# Altium footprint library W25Qxx.PcbLib: 1 footprints
Each footprint in its own frame and in the unit in brackets; x right, y up, seen from the top. Pads: shape width x height; smd on the part's side, far side on the other; paste and mask are expansions set on the pad; w line width, h text height; cw(c..) or ccw(c..) is an arc to the next point about the centre after c.
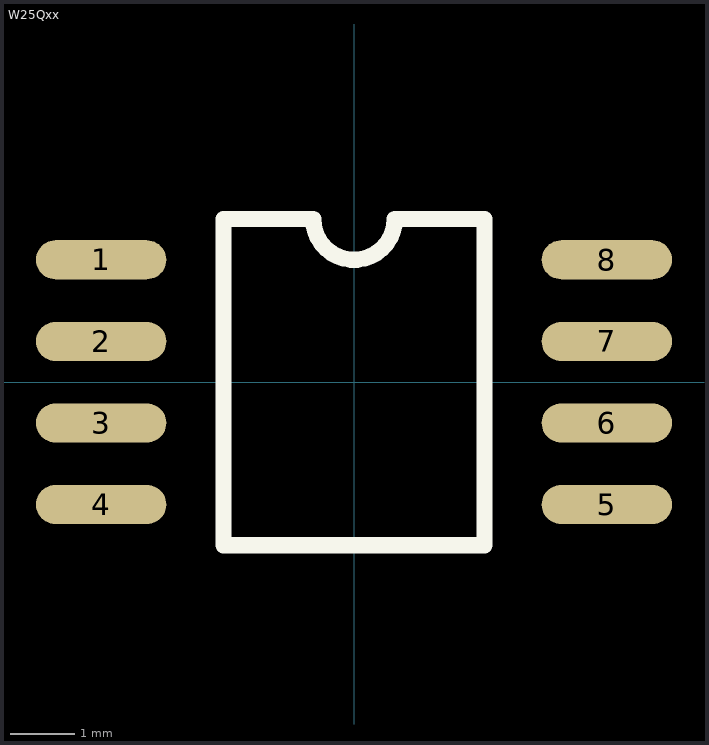
[diagram p0: the footprint, top view; thin cyan lines are the x and y axes]

## W25Qxx [mil]
pads (8):
  oval 80x24 smd: 1(-155,75) 2(-155,25) 3(-155,-25) 4(-155,-75) 5(155,-75) 6(155,-25) 7(155,25) 8(155,75)
Top Overlay:
  lines w10: -80,-100 80,-100 80,100 25,100 cw(c0,100) -25,100 -80,100 -80,-100
3D body "SOIC8.STEP": height 90.55, standoff -0.78, extent -167.2,-105.9 163.21,105.91